# Altium schematic symbol library CM4.SchLib: 5 symbols
Pins are listed as number, name and electrical type; pins without a type are passive.

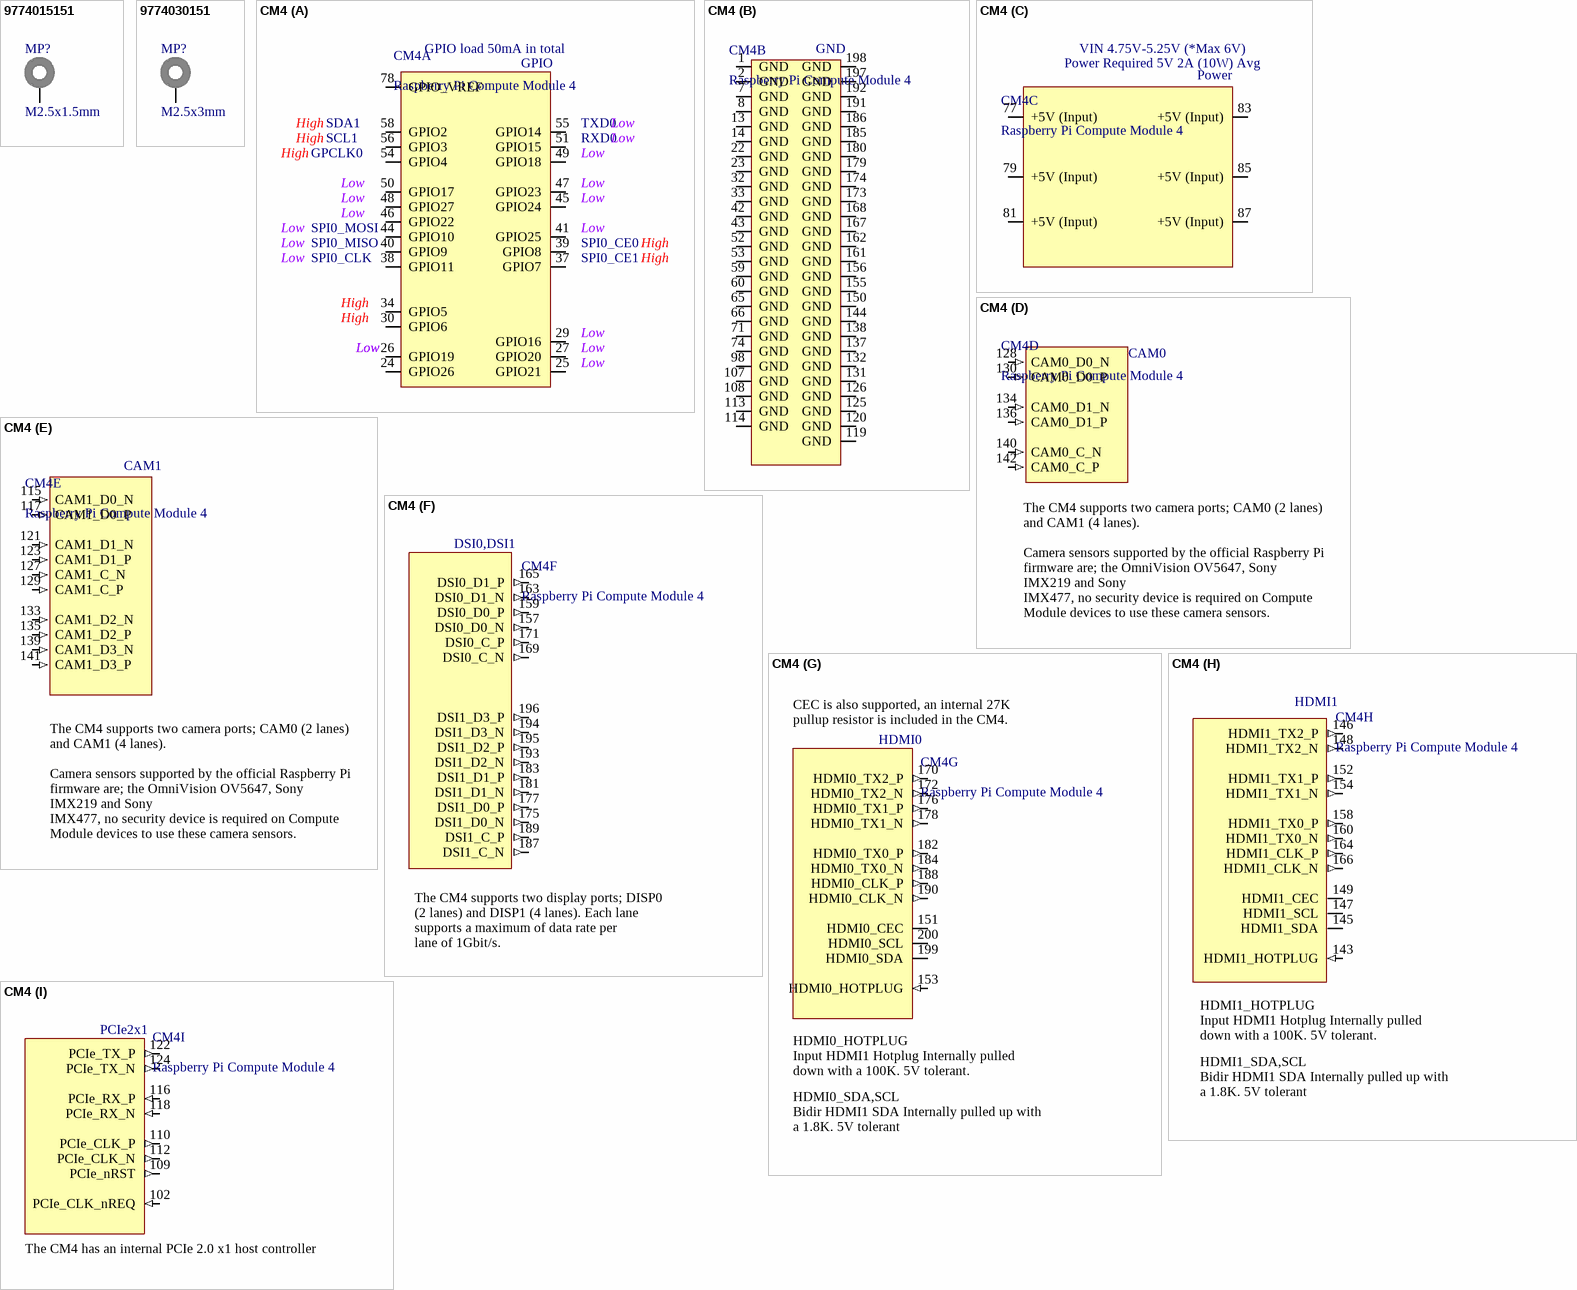
[diagram p0: symbols 9774015151 to CM4]

## 9774015151
designator MP?, comment M2.5x1.5mm
WA-SMSI SMT Steel Spacer, M2.5 Thread Internal, OD 5.1mm, M2.5x1.5mm; Manufacturer Part Number: 9774015151; Manufacturer: Wurth Elektronik; Inner Diameter: 3.5mm; Surface: Tin; ComponentLink1Description: Manufacturer; ComponentLink1URL: http://www.we-online.de; ComponentLink2Description: Datasheet; ComponentLink2URL: https://www.we-online.com/catalog/datasheet/9774015151.pdf; Mounting Technology: SMT; Packaging: Bulk; Length: 1.5mm; Inner Thread Length: -; Operating Temperature: -55 to +150degC; Outer Diameter: 5.1mm; Published Date: April 2020; Material: Steel; Thread: M2.5
footprint 9774015151 (SMT Steel Spacer with internal Thread M2.5, height 1.5mm)
pins: 1

## 9774030151
designator MP?, comment M2.5x3mm
WA-SMSI SMT Steel Spacer, M2.5 Thread Internal, OD 5.1mm, M2.5x3mm; Manufacturer Part Number: 9774030151; Manufacturer: Wurth Elektronik; Inner Diameter: 3.5mm; Surface: Tin; ComponentLink1Description: Manufacturer; ComponentLink1URL: http://www.we-online.de; ComponentLink2Description: Datasheet; ComponentLink2URL: https://www.we-online.com/catalog/datasheet/9774030151.pdf; Mounting Technology: SMT; Packaging: Bulk; Length: 3mm; Inner Thread Length: -; Operating Temperature: -55 to +150degC; Outer Diameter: 5.1mm; Published Date: April 2020; Material: Steel; Thread: M2.5
footprint 9774030151 (SMT Steel Spacer with internal Thread M2.5, height 3mm)
pins: 1

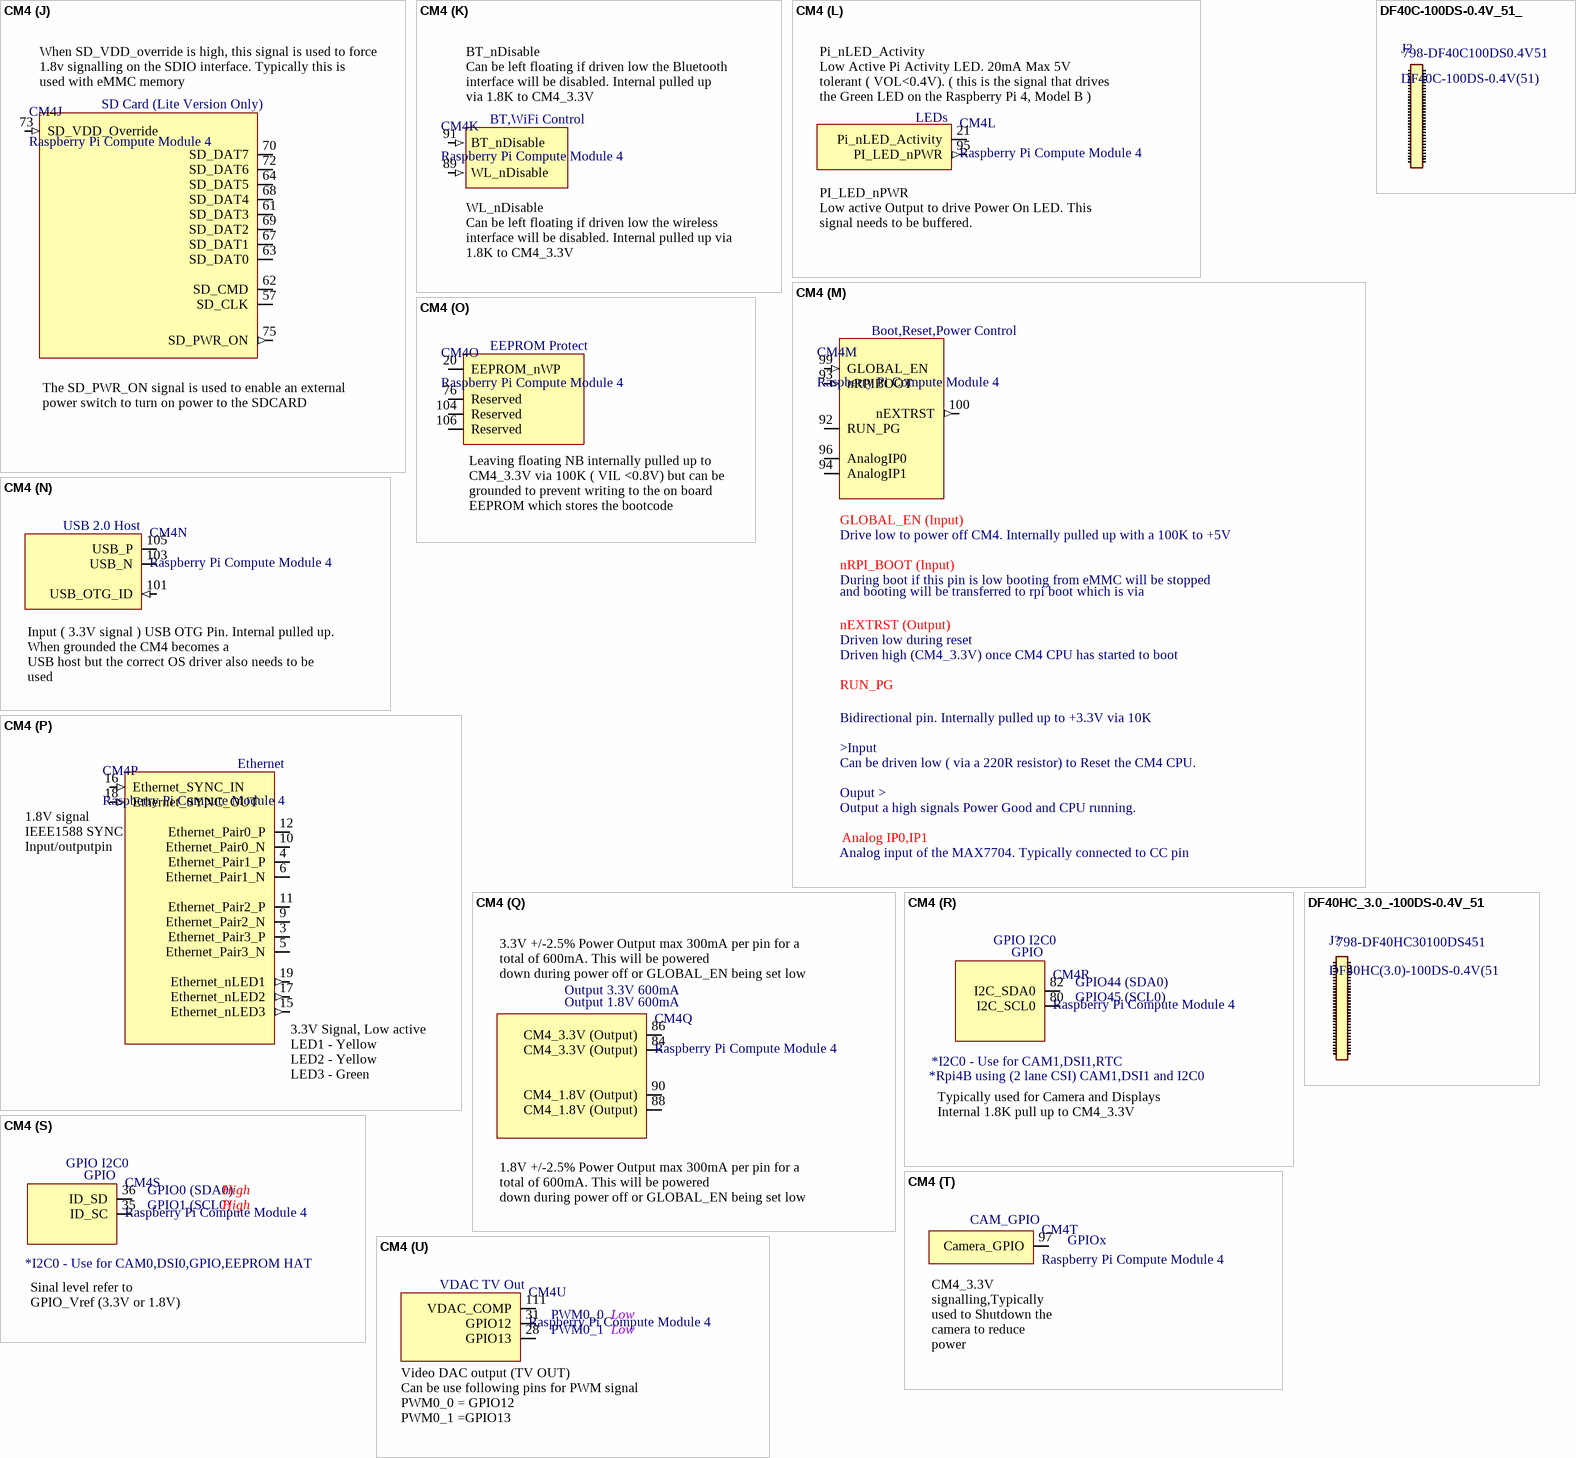
[diagram p1: symbols CM4 to DF40HC_3.0_-100DS-0.4V_51]

## CM4
designator CM4, comment Raspberry Pi Compute Module 4  (no BOM)
Raspberry Pi Compute Module 4 by Amornthep Phunsin
footprint CM4-F40C-100DS-0.4v_1.5mm_0mm (DF40C-100DS-0.4v by Amornthep Phunsin)
footprint CM4-DF40HC(3.0)-100DS-0.4v_3mm_1.5mm (DF40HC(3.0)-100DS-0.4v)
part A pins: 24 GPIO26 "Pin37", 25 GPIO21 "Pin40", 26 GPIO19 "Pin35", 27 GPIO20 "Pin38", 29 GPIO16 "Pin36", 30 GPIO6 "Pin31", 34 GPIO5 "Pin29", 37 GPIO7 "Pin26 SPI0_CE1", 38 GPIO11 "Pin23 SPI0_CLK", 39 GPIO8 "Pin24 SPI0_CE0", 40 GPIO9 "Pin21 SPI0_MISO", 41 GPIO25 "Pin22", 44 GPIO10 "Pin19 SPI0_MOSI", 45 GPIO24 "Pin18", 46 GPIO22 "Pin15", 47 GPIO23 "Pin16", 48 GPIO27 "Pin13", 49 GPIO18 "Pin12", 50 GPIO17 "Pin11", 51 GPIO15 "Pin10 RXD0", 54 GPIO4 "Pin7 GPCLK0", 55 GPIO14 "Pin8 TXD0", 56 GPIO3 "Pin5 SCL1 Internal 1.8K pull up", 58 GPIO2 "Pin3 SDA1 Internal 1.8K pull up", 78 GPIO_VREF (power) "Must be connected to CM4_3.3V ( pins 84 and 86 ) for 3.3V GPIO or CM4_1.8V ( pins 88 and 90) for 1.8V GPIO. This pin cannot be floating or connected to ground"
part B pins: 1 GND (power) "Ground (0V)", 2 GND (power) "Ground (0V)", 7 GND (power) "Ground (0V)", 8 GND (power) "Ground (0V)", 13 GND (power) "Ground (0V)", 14 GND (power) "Ground (0V)", 22 GND (power) "Ground (0V)", 23 GND (power) "Ground (0V)", 32 GND (power) "Ground (0V)", 33 GND (power) "Ground (0V)", 42 GND (power) "Ground (0V)", 43 GND (power) "Ground (0V)", 52 GND (power) "Ground (0V)", 53 GND (power) "Ground (0V)", 59 GND (power) "Ground (0V)", 60 GND (power) "Ground (0V)", 65 GND (power) "Ground (0V)", 66 GND (power) "Ground (0V)", 71 GND (power) "Ground (0V)", 74 GND (power) "Ground (0V)", 98 GND (power) "Ground (0V)", 107 GND (power) "Ground (0V)", 108 GND (power) "Ground (0V)", 113 GND (power) "Ground (0V)", 114 GND (power) "Ground (0V)", 119 GND (power) "Ground (0V)", 120 GND (power) "Ground (0V)", 125 GND (power) "Ground (0V)", 126 GND (power) "Ground (0V)", 131 GND (power) "Ground (0V)", 132 GND (power) "Ground (0V)", 137 GND (power) "Ground (0V)", 138 GND (power) "Ground (0V)", 144 GND (power) "Ground (0V)", 150 GND (power) "Ground (0V)", 155 GND (power) "Ground (0V)", 156 GND (power) "Ground (0V)", 161 GND (power) "Ground (0V)", 162 GND (power) "Ground (0V)", 167 GND (power) "Ground (0V)", 168 GND (power) "Ground (0V)", 173 GND (power) "Ground (0V)", 174 GND (power) "Ground (0V)", 179 GND (power) "Ground (0V)", 180 GND (power) "Ground (0V)", 185 GND (power) "Ground (0V)", 186 GND (power) "Ground (0V)", 191 GND (power) "Ground (0V)", 192 GND (power) "Ground (0V)", 197 GND (power) "Ground (0V)", 198 GND (power) "Ground (0V)"
part C pins: 77 +5V (Input) (power) "4.75V-5.25V Main power input", 79 +5V (Input) (power) "4.75V-5.25V Main power input", 81 +5V (Input) (power) "4.75V-5.25V Main power input", 83 +5V (Input) (power) "4.75V-5.25V Main power input", 85 +5V (Input) (power) "4.75V-5.25V Main power input", 87 +5V (Input) (power) "4.75V-5.25V Main power input"
part D pins: 128 CAM0_D0_N (in) "Input Camera0 D0 Negative", 130 CAM0_D0_P (in) "Input Camera0 D0 Positive", 134 CAM0_D1_N (in) "Input Camera0 D1 Negative", 136 CAM0_D1_P (in) "Input Camera0 D1 Positive", 140 CAM0_C_N (in) "Input Camera0 Clock Negative", 142 CAM0_C_P (in) "Input Camera0 Clock Positive"
part E pins: 115 CAM1_D0_N (in) "Input Camera1 D0 Negative", 117 CAM1_D0_P (in) "Input Camera1 D0 Positive", 121 CAM1_D1_N (in) "Input Camera1 D1 Negative", 123 CAM1_D1_P (in) "Input Camera1 D1 Positive", 127 CAM1_C_N (in) "Input Camera1 Clock Negative", 129 CAM1_C_P (in) "Input Camera1 Clock Positive", 133 CAM1_D2_N (in) "Input Camera1 D2 Negative", 135 CAM1_D2_P (in) "Input Camera1 D2 Positive", 139 CAM1_D3_N (in) "Input Camera1 D3 Negative", 141 CAM1_D3_P (in) "Input Camera1 D3 Positive"
part F pins: 157 DSI0_D0_N (out) "Output Display0 D0 Negative", 159 DSI0_D0_P (out) "Output Display0 D0 Positive", 163 DSI0_D1_N (out) "Output Display0 D1 Negative", 165 DSI0_D1_P (out) "Output Display0 D1 Positive", 169 DSI0_C_N (out) "Output Display0 Clock Negative", 171 DSI0_C_P (out) "Output Display0 Clock Positive", 175 DSI1_D0_N (out) "Output Display1 D0 Negative", 177 DSI1_D0_P (out) "Output Display1 D0 Positive", 181 DSI1_D1_N (out) "Output Display1 D1 Negative", 183 DSI1_D1_P (out) "Output Display1 D1 Positive", 187 DSI1_C_N (out) "Output Display1 Clock Negative", 189 DSI1_C_P (out) "Output Display1 Clock Positive", 193 DSI1_D2_N (out) "Output Display1 D2 Negative", 194 DSI1_D3_N (out) "Output Display1 D3 Negative", 195 DSI1_D2_P (out) "Output Display1 D2 Positive", 196 DSI1_D3_P (out) "Output Display1 D3 Positive"
part G pins: 151 HDMI0_CEC (oc) "Input HDMI0 CEC Internally pulled up with a 27K. 5V tolerant (It can be connected directly to a HDMI connector a small amount of ESD protection is provided on the CM4 by an on board HDMI05-CL02F3)", 153 HDMI0_HOTPLUG (in) "Input HDMI0 Hotplug Internally pulled down 100K. 5V tolerant. (It can be connected directly to a HDMI connector a small amount of ESD protection is provided on the CM4 by an on board HDMI05-CL02F3)", 170 HDMI0_TX2_P (out) "Output HDMI0 TX2 Positive", 172 HDMI0_TX2_N (out) "Output HDMI0 TX2 Negative", 176 HDMI0_TX1_P (out) "Output HDMI0 TX1 Positive", 178 HDMI0_TX1_N (out) "Output HDMI0 TX1 Negative", 182 HDMI0_TX0_P (out) "Output HDMI0 TX0 Positive", 184 HDMI0_TX0_N (out) "Output HDMI0 TX0 Negative", 188 HDMI0_CLK_P (out) "Output HDMI0 Clock Positive", 190 HDMI0_CLK_N (out) "Output HDMI0 Clock Negative", 199 HDMI0_SDA (io) "Bidir HDMI0 SDA Internally pulled up with a 1.8K. 5V tolerant. (It can be connected directly to a HDMI connector a small amount of ESD protection is provided on the CM4 by an on board HDMI05-CL02F3)", 200 HDMI0_SCL (oc) "Bidir HDMI0 SCL Internally pulled up with a 1.8K. 5V tolerant. (It can be connected directly to a HDMI connector a small amount of ESD protection is provided on the CM4 by an on board HDMI05-CL02F3)"
part H pins: 143 HDMI1_HOTPLUG (in) "Input HDMI1 Hotplug Internally pulled down with a 100K. 5V tolerant. (It can be connected directly to a HDMI connector a small amount of ESD protection is provided on the CM4 by an on board HDMI05-CL02F3)", 145 HDMI1_SDA (io) "Bidir HDMI1 SDA Internally pulled up with a 1.8K. 5V tolerant. (It can be connected directly to a HDMI connector a small amount of ESD protection is provided on the CM4 by an on board HDMI05-CL02F3)", 146 HDMI1_TX2_P (out) "Output HDMI1 TX2 Positive", 147 HDMI1_SCL (oc) "Input HDMI1 SCL Internally pulled up with a 1.8K. 5V tolerant. (It can be connected directly to a HDMI connector a small amount of ESD protection is provided on the CM4 by an on board HDMI05-CL02F3)", 148 HDMI1_TX2_N (out) "Output HDMI1 TX2 Negative", 149 HDMI1_CEC (oc) "Input HDMI1 CEC Internally pulled up with a 27K. 5V tolerant. (It can be connected directly to a HDMI connector a small amount of ESD protection is provided on the CM4 by an on board HDMI05-CL02F3)", 152 HDMI1_TX1_P (out) "Output HDMI1 TX1 Positive", 154 HDMI1_TX1_N (out) "Output HDMI1 TX1 Negative", 158 HDMI1_TX0_P (out) "Output HDMI1 TX0 Positive", 160 HDMI1_TX0_N (out) "Output HDMI1 TX0 Negative", 164 HDMI1_CLK_P (out) "Output HDMI1 Clock Positive", 166 HDMI1_CLK_N (out) "Output HDMI1 Clock Negative"
part I pins: 102 PCIe_CLK_nREQ (in) "Input ( 3.3V signal) PCIe Clock request pin (low to request PCI clock). Internal pulled up", 109 PCIe_nRST (out) "Output (+3.3V signal) PCIe Reset Low active", 110 PCIe_CLK_P (out) "PCIe Clock Out Positive (100MHz) NB AC coupling Capacitor Included on CM4", 112 PCIe_CLK_N (out) "PCIe Clock Out Negative (100MHz) NB AC coupling Capacitor Included on CM4", 116 PCIe_RX_P (in) "Input PCIe GEN 2 RX Positive NB External AC coupling Capacitor required", 118 PCIe_RX_N (in) "Input PCIe GEN 2 RX Negative NB External AC coupling Capacitor required", 122 PCIe_TX_P (out) "Output PCIe GEN 2 TX Positive NB AC coupling Capacitor Included on CM4", 124 PCIe_TX_N (out) "Output PCIe GEN 2 TX Positive NB AC coupling Capacitor Included on CM4"
part J pins: 57 SD_CLK "SDCARD Clock signal (only available on CM4Lite)", 61 SD_DAT3 "SDCARD/eMMC Data3 signal (only available on CM4Lite)", 62 SD_CMD "SDCARD/eMMC Command signal (only available on CM4Lite)", 63 SD_DAT0 "SDCARD/eMMC Data0 signal (only available on CM4Lite)", 64 SD_DAT5 "SDCARD/eMMC Data5 signal (only available on CM4Lite)", 67 SD_DAT1 "SDCARD/eMMC Data1 signal (only available on CM4Lite)", 68 SD_DAT4 "SDCARD/eMMC Data4 signal (only available on CM4Lite)", 69 SD_DAT2 "SDCARD/eMMC Data2 signal (only available on CM4Lite)", 70 SD_DAT7 "SDCARD/eMMC Data7 signal (only available on CM4Lite)", 72 SD_DAT6 "SDCARD/eMMC Data6 signal (only available on CM4Lite)", 73 SD_VDD_Override (in) "Force SDCARD/eMMC interface to 1.8V signalling if set to 3.3V, otherwise leave unconnected. Typically only used if external eMMC is connected", 75 SD_PWR_ON (out) "Output to Power switch for SDCARD. CM4 sets this pin High (3.3V) to signal that Power to the SDCARD should be turned on. If booting from the SDCARD is required then a pullup should be fitted (only available on CM4Lite)"
part K pins: 89 WL_nDisable (in) "Can be left floating if driven low the wireless interface will be disabled. Internal pulled up via 1.8K to CM4_3.3V", 91 BT_nDisable (in) "Can be left floating if driven low the Bluetooth interface will be disabled. Internal pulled up via 1.8K to CM4_3.3V"
part L pins: 21 Pi_nLED_Activity (oc) "Low Active Pi Activity LED. 20mA Max 5V tolerant ( VOL<0.4V). ( this is the signal that drives the Green LED on the Raspberry Pi 4, Model B )", 95 PI_LED_nPWR (out) "Low active Output to drive Power On LED. This signal needs to be buffered."
part M pins: 92 RUN_PG "Bidirectional pin. Can be driven low ( via a 220R resistor) to Reset the CM4 CPU. As an Output a high signals Power Good and CPU running. Internally pulled up to +3.3V via 10K", 93 nRPIBOOT (in) "A low on this pin force booting from an RPI server ( e.g PC or a Raspberry Pi)  if not used leave floating. Internally pulled via 10K to +3.3V", 94 AnalogIP1 "Analogue input of the MAX7704. Typically connected to CC pin of Type C power connector", 96 AnalogIP0 "Analogue input of the MAX7704. Typically connected to CC pin of Type C power connector", 99 GLOBAL_EN (in) "Input. Drive low to power off CM4. Internally pulled up with a 100K to +5V", 100 nEXTRST (out) "Output Driven low during reset Driven high (CM4_3.3V) once CM4 CPU has started to boot"
part N pins: 101 USB_OTG_ID (in) "Input ( 3.3V signal ) USB OTG Pin. Internal pulled up. When grounded the CM4 becomes a USB host but the correct OS driver also needs to be used", 103 USB_N "USB D-", 105 USB_P "USB D+"
part O pins: 20 EEPROM_nWP "Leaving floating NB internally pulled up to CM4_3.3V via 100K ( VIL <0.8V) but can be grounded to prevent writing to the on board EEPROM which stores the bootcode", 76 Reserved "Do not Connect anything to this pin.", 104 Reserved "Do not Connect anything to this pin.", 106 Reserved "Do not Connect anything to this pin."
part P pins: 3 Ethernet_Pair3_P "Ethernet Pair 3 Positive ( connect to Transformer or MagJack)", 4 Ethernet_Pair1_P "Ethernet Pair 1 Positive ( connect to Transformer or MagJack)", 5 Ethernet_Pair3_N "Ethernet Pair 3 Negative ( connect to Transformer or MagJack)", 6 Ethernet_Pair1_N "Ethernet Pair 1 Negative ( connect to Transformer or MagJack)", 9 Ethernet_Pair2_N "Ethernet Pair 2 Negative ( connect to Transformer or MagJack)", 10 Ethernet_Pair0_N "Ethernet Pair 0 Negative ( connect to Transformer or MagJack)", 11 Ethernet_Pair2_P "Ethernet Pair 2 Positive ( connect to Transformer or MagJack)", 12 Ethernet_Pair0_P "Ethernet Pair 0 Positive ( connect to Transformer or MagJack)", 15 Ethernet_nLED3 (out) "Low Active Ethernet Activity indicator ( 3.3V signal) Typically a Green LED is connected to this pin: IOL = 8mA @ VOL< 0.4V", 16 Ethernet_SYNC_IN (in) "IEEE1588 SYNC Input pin ( 1.8V signal : IOL = 8mA @ VOL< 0.4V )", 17 Ethernet_nLED2 (out) "Low Active Ethernet speed indicator ( 3.3V signal) Typically a Yellow LED is connected to this pin. A low State indicates the 1Gbit or 100Mbit Link : IOL = 8mA @ VOL< 0.4V", 18 Ethernet_SYNC_OUT (in) "IEEE1588 SYNC Output pin ( 1.8V signal : IOL = 8mA @ VOL< 0.4V )", 19 Ethernet_nLED1 (out) "Low Active Ethernet speed indicator ( 3.3V signal) Typically a Yellow LED is connected to this pin. A low State indicates the 1Gbit or 10Mbit Link : IOL = 8mA @ VOL< 0.4V"
part Q pins: 84 CM4_3.3V (Output) (power) "3.3V +/-2.5% Power Output max 300mA per pin for a total of 600mA. This will be powered down during power off or GLOBAL_EN being set low", 86 CM4_3.3V (Output) (power) "3.3V +/-2.5% Power Output max 300mA per pin for a total of 600mA. This will be powered down during power off or GLOBAL_EN being set low", 88 CM4_1.8V (Output) (power) "1.8V +/-2.5% Power Output max 300mA per pin for a total of 600mA. This will be powered down during power off or GLOBAL_EN being set low", 90 CM4_1.8V (Output) (power) "1.8V +/-2.5% Power Output max 300mA per pin for a total of 600mA. This will be powered down during power off or GLOBAL_EN being set low"
part R pins: 80 I2C_SCL0 "IIC Clock pin ( Raspberry Pi GPIO45) Typically used for Camera and Displays Internal 1.8K pull up to CM4_3.3V", 82 I2C_SDA0 "IIC Data pin ( Raspberry Pi GPIO44 ) Typically used for Camera and Displays Internal 1.8K pull up to CM4_3.3V"
part S pins: 35 ID_SC "Pin28 GPIO1 SCL0", 36 ID_SD "Pin27 GPIO0 SDA0"
part T pins: 97 Camera_GPIO "Typically used to Shutdown the camera to reduce power. Reassigning this pin to another function isn’t recommended. CM4_3.3V signalling"
part U pins: 28 GPIO13 "Pin33 PWM1", 31 GPIO12 "Pin32 PWM0", 111 VDAC_COMP "Video DAC output (TV OUT)"
part A text: GPIO load 50mA in total; GPIO; High; SDA1; TXD0; Low; SCL1; RXD0; GPCLK0; SPI0_MOSI; SPI0_MISO; SPI0_CE0; SPI0_CLK; SPI0_CE1; by Amornthep Phunsin
part C text: VIN 4.75V-5.25V (*Max 6V); Power Required 5V 2A (10W) Avg; Power; by Amornthep Phunsin
part D text: CAM0; The CM4 supports two camera ports; CAM0 (2 lanes) and CAM1 (4 lanes). / Camera sensors supported by the official Raspberry Pi firmware are; the OmniVision OV5647, Sony IMX219 and Sony / IMX477, no security device is required on Compute Module devices to use these camera sensors.
part E text: CAM1; The CM4 supports two camera ports; CAM0 (2 lanes) and CAM1 (4 lanes). / Camera sensors supported by the official Raspberry Pi firmware are; the OmniVision OV5647, Sony IMX219 and Sony / IMX477, no security device is required on Compute Module devices to use these camera sensors.
part F text: DSI0,DSI1; The CM4 supports two display ports; DISP0 (2 lanes) and DISP1 (4 lanes). Each lane supports a maximum of data rate per / lane of 1Gbit/s.
part G text: HDMI0; CEC is also supported, an internal 27K pullup resistor is included in the CM4.; HDMI0_HOTPLUG / Input HDMI1 Hotplug Internally pulled down with a 100K. 5V tolerant.; HDMI0_SDA,SCL / Bidir HDMI1 SDA Internally pulled up with a 1.8K. 5V tolerant
part H text: HDMI1; HDMI1_HOTPLUG / Input HDMI1 Hotplug Internally pulled down with a 100K. 5V tolerant.; HDMI1_SDA,SCL / Bidir HDMI1 SDA Internally pulled up with a 1.8K. 5V tolerant
part I text: PCIe2x1; The CM4 has an internal PCIe 2.0 x1 host controller
part J text: When SD_VDD_override is high, this signal is used to force 1.8v signalling on the SDIO interface. Typically this is / used with eMMC memory; SD Card (Lite Version Only); by Amornthep Phunsin; The SD_PWR_ON signal is used to enable an external power switch to turn on power to the SDCARD
part K text: BT_nDisable / Can be left floating if driven low the Bluetooth interface will be disabled. Internal pulled up / via 1.8K to CM4_3.3V; BT,WiFi Control; WL_nDisable / Can be left floating if driven low the wireless interface will be disabled. Internal pulled up via / 1.8K to CM4_3.3V
part L text: Pi_nLED_Activity / Low Active Pi Activity LED. 20mA Max 5V tolerant ( VOL<0.4V). ( this is the signal that drives / the Green LED on the Raspberry Pi 4, Model B ); LEDs; PI_LED_nPWR / Low active Output to drive Power On LED. This signal needs to be buffered.
part M text: Boot,Reset,Power Control; GLOBAL_EN (Input); Drive low to power off CM4. Internally pulled up with a 100K to +5V; nRPI_BOOT (Input); During boot if this pin is low booting from eMMC will be stopped; and booting will be transferred to rpi boot which is via; nEXTRST (Output); Driven low during reset; Driven high (CM4_3.3V) once CM4 CPU has started to boot; Bidirectional pin. Internally pulled up to +3.3V via 10K / >Input / Can be driven low ( via a 220R resistor) to Reset the CM4 CPU. / Ouput > / Output a high signals Power Good and CPU running.; Analog IP0,IP1; Analog input of the MAX7704. Typically connected to CC pin
part N text: USB 2.0 Host; Input ( 3.3V signal ) USB OTG Pin. Internal pulled up. When grounded the CM4 becomes a / USB host but the correct OS driver also needs to be used
part O text: EEPROM Protect; Leaving floating NB internally pulled up to CM4_3.3V via 100K ( VIL <0.8V) but can be / grounded to prevent writing to the on board EEPROM which stores the bootcode
part P text: Ethernet; 1.8V signal / IEEE1588 SYNC Input/outputpin; by Amornthep Phunsin; 3.3V Signal, Low active / LED1 - Yellow / LED2 - Yellow / LED3 - Green
part Q text: 3.3V +/-2.5% Power Output max 300mA per pin for a total of 600mA. This will be powered / down during power off or GLOBAL_EN being set low; Output 3.3V 600mA; Output 1.8V 600mA; 1.8V +/-2.5% Power Output max 300mA per pin for a total of 600mA. This will be powered / down during power off or GLOBAL_EN being set low
part R text: GPIO I2C0; GPIO; GPIO44 (SDA0); GPIO45 (SCL0); *I2C0 - Use for CAM1,DSI1,RTC; *Rpi4B using (2 lane CSI) CAM1,DSI1 and I2C0; Typically used for Camera and Displays Internal 1.8K pull up to CM4_3.3V
part S text: GPIO I2C0; GPIO; GPIO0 (SDA0); High; GPIO1 (SCL0); *I2C0 - Use for CAM0,DSI0,GPIO,EEPROM HAT; Sinal level refer to  GPIO_Vref (3.3V or 1.8V)
part T text: CAM_GPIO; GPIOx; CM4_3.3V signalling,Typically used to Shutdown the camera to reduce power
part U text: VDAC TV Out; PWM0_0; Low; PWM0_1; Video DAC output (TV OUT) / Can be use following pins for PWM signal / PWM0_0 = GPIO12 / PWM0_1 =GPIO13

## DF40C-100DS-0.4V_51_
designator J?, comment DF40C-100DS-0.4V(51)  Supplier Part Number 1: 798-DF40C100DS0.4V51  (mechanical)
Conn Board to Board RCP 100 POS 0.4mm Solder ST SMD T/R; Manufacturer_Name: Hirose; Number of Contacts: 100; Contact Resistance: 90mR; Max Current Rating: 300mA; Voltage Rating: 30V; Connector Type: Receptacle; Mated Stacking Heights: 1.5mm; Datasheet Link: https://www.hirose.com/product/en/download_file/key_name/DF40C-100DS-0.4V%2851%29/category/Drawing%20(2D)/doc_file_id/46856/?file_category_id=6&item_id=06844033451&is_series=; Height: 1.65mm; Manufacturer_Part_Number: DF40C-100DS-0.4V(51); Mouser Part Number: 798-DF40C100DS0.4V51; Mouser Price/Stock: https://www.mouser.co.uk/ProductDetail/Hirose-Connector/DF40C-100DS-04V51?qs=eDUdFcBPps2MEwbnuPvZzQ%3D%3D; Arrow Part Number: DF40C-100DS-0.4V(51); Arrow Price/Stock: https://www.arrow.com/en/products/df40c-100ds-0.4v-51/hirose-electric; Supplier 1: Mouser; Manufacturer: Hirose; Manufacturer Part Number: DF40C-100DS-0.4V(51); RoHS: Yes; Category: Headers and Wire Housings; Stock 1: 10973; Pricing 1: 1=1.75000, 10=1.47000, 50=1.47000, 100=1.37000, 1000=0.97500, 10000=0.86400 (USD); Mount: Surface Mount; Contact Plating: Gold; Contact Material: Bronze; Housing Color: Black; Housing Material: Polymer; Min Operating Temperature: -35°C; Max Operating Temperature: 85°C; Number of Rows: 2; Termination: SMD/SMT; Packaging: Tape and Reel; Package Quantity: 1; Current Rating: 300mA; Number of Positions: 100; Max Voltage Rating (AC): 30V; Gender: Receptacle; Orientation: Straight; Series: DF40; Length: 22.6mm; Pitch: 0.4mm; Depth: 3.38mm; Radiation Hardening: No; REACH SVHC: Unknown; Lead Free: Lead Free; RoHS Compliant: Yes; ComponentLink1URL: https://datasheet.ciiva.com/26948/getdatasheetpartid-441624-26948933.pdf?src-supplier=Verical; ComponentLink1Description: https://datasheet.ciiva.com/26948/getdatasheetpartid-441624-26948933.pdf?src-supplier=Verical; ComponentLink2URL: https://datasheet.ciiva.com/46408/1824826-46408894.pdf?src-supplier=Element14; ComponentLink2Description: https://datasheet.ciiva.com/46408/1824826-46408894.pdf?src-supplier=Element14
footprint CM4-DF40 (DF40)

## DF40HC_3.0_-100DS-0.4V_51
designator J?, comment DF40HC(3.0)-100DS-0.4V(51  Supplier Part Number 1: 798-DF40HC30100DS451  (mechanical)
Conn Board to Board RCP 100 POS 0.4mm Solder ST SMD T/R; Manufacturer_Name: Hirose; Connector Type: Receptacle; Number of Positions: 100; Pitch: 0.016inch; Datasheet Link: https://componentsearchengine.com/Datasheets/1/DF40HC(3.0)-100DS-0.4V(51.pdf; Height: 3.05mm; Manufacturer_Part_Number: DF40HC(3.0)-100DS-0.4V(51; Mouser Part Number: 798-DF40HC30100DS451; Mouser Price/Stock: https://www.mouser.co.uk/ProductDetail/Hirose-Connector/DF40HC30-100DS-04V51/?qs=%252BAZVS4b%2FkgIV%252B3vHYy2dCA%3D%3D; Arrow Part Number: DF40HC(3.0)-100DS-0.4V(51; Arrow Price/Stock: https://www.arrow.com/en/products/df40hc-3.0-100ds-0.4v-51/hirose-electric; Supplier 1: Mouser; Manufacturer: Hirose; Manufacturer Part Number: DF40HC(3.0)-100DS-0.4V(51; RoHS: Yes; Category: Headers and Wire Housings; Stock 1: 1901; Pricing 1: 1=2.50000, 10=2.15000, 50=2.15000, 100=2.00000, 1000=1.45000, 10000=1.29000 (USD); Mount: Surface Mount; Contact Plating: Gold; Package Quantity: 3000; Packaging: Tape and Reel; Number of Rows: 2; ComponentLink1URL: https://datasheet.ciiva.com/13559/ed-df40-20140305-13559540.pdf?src-supplier=Mouser; ComponentLink1Description: https://datasheet.ciiva.com/13559/ed-df40-20140305-13559540.pdf?src-supplier=Mouser; ComponentLink2URL: https://datasheet.ciiva.com/18562/ed-df40-20140305-18562462.pdf?src-supplier=Digi-Key; ComponentLink2Description: https://datasheet.ciiva.com/18562/ed-df40-20140305-18562462.pdf?src-supplier=Digi-Key
footprint CM4-DF40 (DF40)